# Altium footprint library SparkFun-Sensors.PCBLIB: 104 footprints (part 7 of 7)
Each footprint in its own frame and in the unit in brackets; x right, y up, seen from the top. Pads: shape width x height; smd on the part's side, far side on the other; paste and mask are expansions set on the pad; w line width, h text height; cw(c..) or ccw(c..) is an arc to the next point about the centre after c.
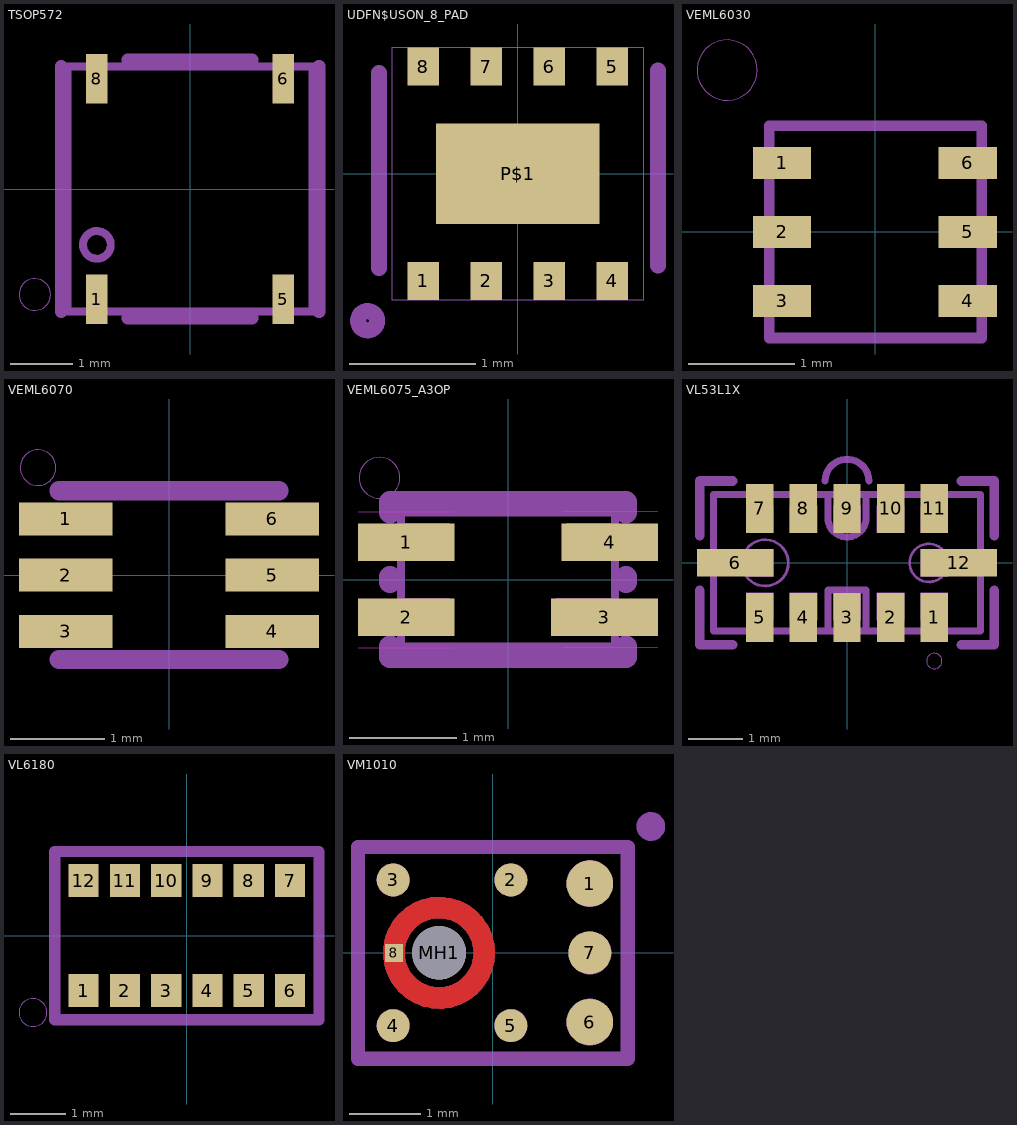
[diagram p6: the footprints below, top view; thin cyan lines are the x and y axes]

## TSOP572 [mm]
pads (4):
  rect 0.35x0.8 smd: 1(-1.5,-1.775) 5(1.5,-1.775) 6(1.5,1.775) 8(-1.5,1.775)
tDocu:
  circle w0.127: c-1.5,-0.9 r0.224
  lines w0.127: -1.975,-1.975 -1.975,1.975 1.975,1.975 1.975,-1.975 -1.975,-1.975
tPlace:
  circle w0: c-2.5,-1.7 r0.254
  lines w0.203: -2.077,-1.975 -2.077,1.975 ; -1,-2.077 1,-2.077 ; -1,2.077 1,2.077 ; 2.077,-1.975 2.077,1.975

## UDFN$USON_8_PAD [mil]
pads (9):
  rect 9.84x11.81 smd: 1(-29.53,-33.53) 2(-9.84,-33.53) 3(9.84,-33.53) 4(29.53,-33.53) 5(29.53,33.53) 6(9.84,33.53) 7(-9.84,33.53) 8(-29.53,33.53)
  rect 51.18x31.5 smd paste+0: P$1(0,0)
Top Paste:
  region: -22,2 -22,13 -10,13 -10,2
  region: 9.69,2.16 9.69,13.16 21.69,13.16 21.69,2.16
  region: 9.69,-12.84 9.69,-1.84 21.69,-1.84 21.69,-12.84
  region: -22.32,-12.84 -22.32,-1.84 -10.32,-1.84 -10.32,-12.84
  region: -6.32,-5.84 -6.32,5.16 5.68,5.16 5.68,-5.84
tDocu:
  lines w0: -39.37,-39.37 39.37,-39.37 39.37,39.37 -39.37,39.37 -39.37,-39.37
tPlace:
  circle w5: c-47,-46 r3
  lines w5: -43.43,-29.51 -43.43,31.51 ; 43.86,-28.67 43.86,32.35

## VEML6030 [mm]
pads (6):
  rect 0.55x0.3 smd: 1(-0.88,0.65) 2(-0.88,0) 3(-0.88,-0.65) 4(0.87,-0.65) 5(0.87,0) 6(0.87,0.65)
tDocu:
  lines w0.1: -1,-1 1,-1 1,1 -1,1 -1,-1
tPlace:
  circle w0: c-1.397,1.524 r0.284

## VEML6070 [mm]
pads (6):
  rect 1x0.35 smd: 1(-1.1,0.6) 2(-1.1,0) 3(-1.1,-0.6) 4(1.1,-0.6) 5(1.1,0) 6(1.1,0.6)
tPlace:
  circle w0: c-1.397,1.147 r0.191
  lines w0.203: -1.175,-0.9 1.175,-0.9 ; -1.175,0.9 1.175,0.9

## VEML6075_A3OP [mm]
pads (4):
  rect 0.9x0.35 smd: 1(-0.95,0.35) 2(-0.95,-0.35) 4(0.95,0.35)
  rect 1x0.35 smd: 3(0.9,-0.35)
Top keep-out:
  lines w0.003: -1.397,-0.635 -0.508,-0.635 ; -1.397,0.635 -0.508,0.635 ; 0.508,-0.635 1.397,-0.635 ; 0.508,0.635 1.397,0.635
tDocu:
  region: -0.97,0.175 -0.97,0.525 -0.55,0.525 -0.55,0.175
  region: 0.97,0.525 0.97,0.175 0.55,0.175 0.55,0.525
  region: -0.97,-0.525 -0.97,-0.175 -0.55,-0.175 -0.55,-0.525
  region: 0.45,-0.525 0.45,-0.175 0.97,-0.175 0.97,-0.525
  lines w0.076: -1,-0.625 -1,0.625 1,0.625 1,-0.625 -1,-0.625
tPlace:
  circle w0: c-1.2,0.95 r0.191
  lines w0.203: -1.1,-0.625 -1.1,-0.725 1.1,-0.725 1.1,-0.625 ; -1.1,-0.025 -1.1,0.025 ; -1.1,0.625 -1.1,0.725 1.1,0.725 1.1,0.625 ; 1.1,-0.025 1.1,0.025

## VL53L1X [mm]
pads (12):
  rect 0.5x0.9 smd paste+0: 1(1.6,-1) 2(0.8,-1) 3(0,-1) 4(-0.8,-1) 5(-1.6,-1) 7(-1.6,1) 8(-0.8,1) 9(0,1) 10(0.8,1) 11(1.6,1)
  rect 1.4x0.5 smd paste+0: 6(-2.05,0) 12(2.05,0)
Top Paste:
  region: -1.85,-1.15 -1.85,-0.55 -1.35,-0.55 -1.35,-1.15
  region: -1.05,-1.15 -1.05,-0.55 -0.55,-0.55 -0.55,-1.15
  region: -0.25,-1.15 -0.25,-0.55 0.25,-0.55 0.25,-1.15
  region: 0.55,-1.15 0.55,-0.55 1.05,-0.55 1.05,-1.15
  region: 1.35,-1.15 1.35,-0.55 1.85,-0.55 1.85,-1.15
  region: 1.95,-0.25 1.35,-0.25 1.35,0.25 1.95,0.25
  region: 1.85,1.15 1.85,0.55 1.35,0.55 1.35,1.15
  region: 1.05,1.15 1.05,0.55 0.55,0.55 0.55,1.15
  region: 0.25,1.15 0.25,0.55 -0.25,0.55 -0.25,1.15
  region: -0.55,1.15 -0.55,0.55 -1.05,0.55 -1.05,1.15
  region: -1.35,1.15 -1.35,0.55 -1.85,0.55 -1.85,1.15
  region: -1.95,0.25 -1.35,0.25 -1.35,-0.25 -1.95,-0.25
tDocu:
  lines w0.127: -0.35,-1.25 0.35,-1.25 ; -0.35,-1.25 -2.45,-1.25 -2.45,1.25 -0.35,1.25 ; -0.35,-1.25 -0.35,-0.5 0.35,-0.5 0.35,-1.25 ; -0.35,1.25 0.35,1.25 ; -0.35,1.25 -0.35,0.85 ccw(c0,0.825) 0.35,0.85 0.35,1.25 ; 0.35,-1.25 2.45,-1.25 2.45,1.25 0.35,1.25
tPlace:
  circle w0: c1.6,-1.8 r0.141
  lines w0.127: -0.4,1.5 cw(c0,1.5) 0.4,1.5
  lines w0.178: -2.7,-0.5 -2.7,-1.5 -2.1,-1.5 ; -2.7,0.5 -2.7,1.5 -2.1,1.5 ; 2.1,-1.5 2.7,-1.5 2.7,-0.5 ; 2.1,1.5 2.7,1.5 2.7,0.5
Document:
  region: 1.35,-0.25 1.35,0.25 1.85,0.25 1.85,-0.25
  region: -0.25,-1.05 -0.25,-0.55 0.25,-0.55 0.25,-1.05
  region: 0.55,-1.05 0.55,-0.55 1.05,-0.55 1.05,-1.05
  region: 1.35,-1.05 1.35,-0.55 1.85,-0.55 1.85,-1.05
  region: -1.05,-1.05 -1.05,-0.55 -0.55,-0.55 -0.55,-1.05
  region: -1.85,-1.05 -1.85,-0.55 -1.35,-0.55 -1.35,-1.05
  region: -1.85,-0.25 -1.85,0.25 -1.35,0.25 -1.35,-0.25
  region: -1.85,0.55 -1.85,1.05 -1.35,1.05 -1.35,0.55
  region: -1.05,0.55 -1.05,1.05 -0.55,1.05 -0.55,0.55
  region: -0.25,0.55 -0.25,1.05 0.25,1.05 0.25,0.55
  region: 0.55,0.55 0.55,1.05 1.05,1.05 1.05,0.55
  region: 1.35,0.55 1.35,1.05 1.85,1.05 1.85,0.55
Reference:
  circle w0.05: c-1.5,0 r0.425
  circle w0.05: c1.5,0 r0.35

## VL6180 [mm]
pads (12):
  rect 0.55x0.6 smd paste+0: 1(-1.875,-1) 2(-1.125,-1) 3(-0.375,-1) 4(0.375,-1) 5(1.125,-1) 6(1.875,-1) 7(1.875,1) 8(1.125,1) 9(0.375,1) 10(-0.375,1) 11(-1.125,1) 12(-1.875,1)
Top Paste:
  drawing of 12 lines, arcs and shapes, not listed
tPlace:
  circle w0: c-2.794,-1.397 r0.254
  lines w0.203: -2.4,-1.527 2.4,-1.527 2.4,1.527 -2.4,1.527 -2.4,-1.527

## VM1010 [mm]
pads (9):
  rrect100% 0.65x0.65 smd paste+0 mask+0: 1(1.35,0.965) 6(1.35,-0.965)
  rrect100% 0.46x0.46 smd paste+0 mask+0: 2(0.25,1.015) 3(-1.39,1.015) 4(-1.39,-1.015) 5(0.25,-1.015)
  rrect100% 0.6x0.6 smd paste+0 mask+0: 7(1.35,0)
  rect 0.25x0.25 smd paste+0 mask+0: 8(-1.38,0)
  round 0.75 hole 0.75 unplated: MH1(-0.75,0)
Top:
  circle w0.3: c-0.75,0 r0.63
Top Paste:
  circle w0.4: c1.35,0.965 r0.1
  circle w0.35: c1.35,0 r0.1
  circle w0.4: c1.35,-0.965 r0.1
  circle w0.21: c0.25,1.015 r0.1
  circle w0.21: c-1.39,1.015 r0.1
  circle w0.21: c-1.39,-1.015 r0.1
  circle w0.21: c0.25,-1.015 r0.1
  lines w0.2: -1.4,-0.175 ccw(c-0.75,0) -0.925,-0.65 ; -1.4,0.175 cw(c-0.75,0) -0.925,0.65 ; -0.575,-0.65 ccw(c-0.75,0) -0.1,-0.175 ; -0.575,0.65 cw(c-0.75,0) -0.1,0.175
Top Solder:
  circle w0.55: c1.35,0.965 r0.1
  circle w0.5: c1.35,0 r0.1
  circle w0.55: c1.35,-0.965 r0.1
  circle w0.36: c0.25,1.015 r0.1
  circle w0.83: c-0.75,0 r0.415
  circle w0.36: c-1.39,1.015 r0.1
  circle w0.36: c-1.39,-1.015 r0.1
  circle w0.36: c0.25,-1.015 r0.1
tDocu:
  circle w0.26: c-1.39,1.015 r0.1
  circle w0.26: c0.25,1.015 r0.1
  circle w0.45: c1.35,0.965 r0.1
  circle w0.4: c1.35,0 r0.1
  circle w0.45: c1.35,-0.965 r0.1
  circle w0.26: c0.25,-1.015 r0.1
  circle w0.26: c-1.39,-1.015 r0.1
  circle w0.3: c-0.75,0 r0.63
  lines w0.15: -1.88,-1.475 1.88,-1.475 1.88,1.475 -1.88,1.475 -1.88,-1.475
tPlace:
  circle w0.2: c2.2,1.76 r0.1
  lines w0.2: -1.88,-1.475 1.88,-1.475 1.88,1.475 -1.88,1.475 -1.88,-1.475